# Altium footprint library EPC144.PcbLib: 12 footprints
Each footprint in its own frame and in the unit in brackets; x right, y up, seen from the top. Pads: shape width x height; smd on the part's side, far side on the other; paste and mask are expansions set on the pad; w line width, h text height; cw(c..) or ccw(c..) is an arc to the next point about the centre after c.
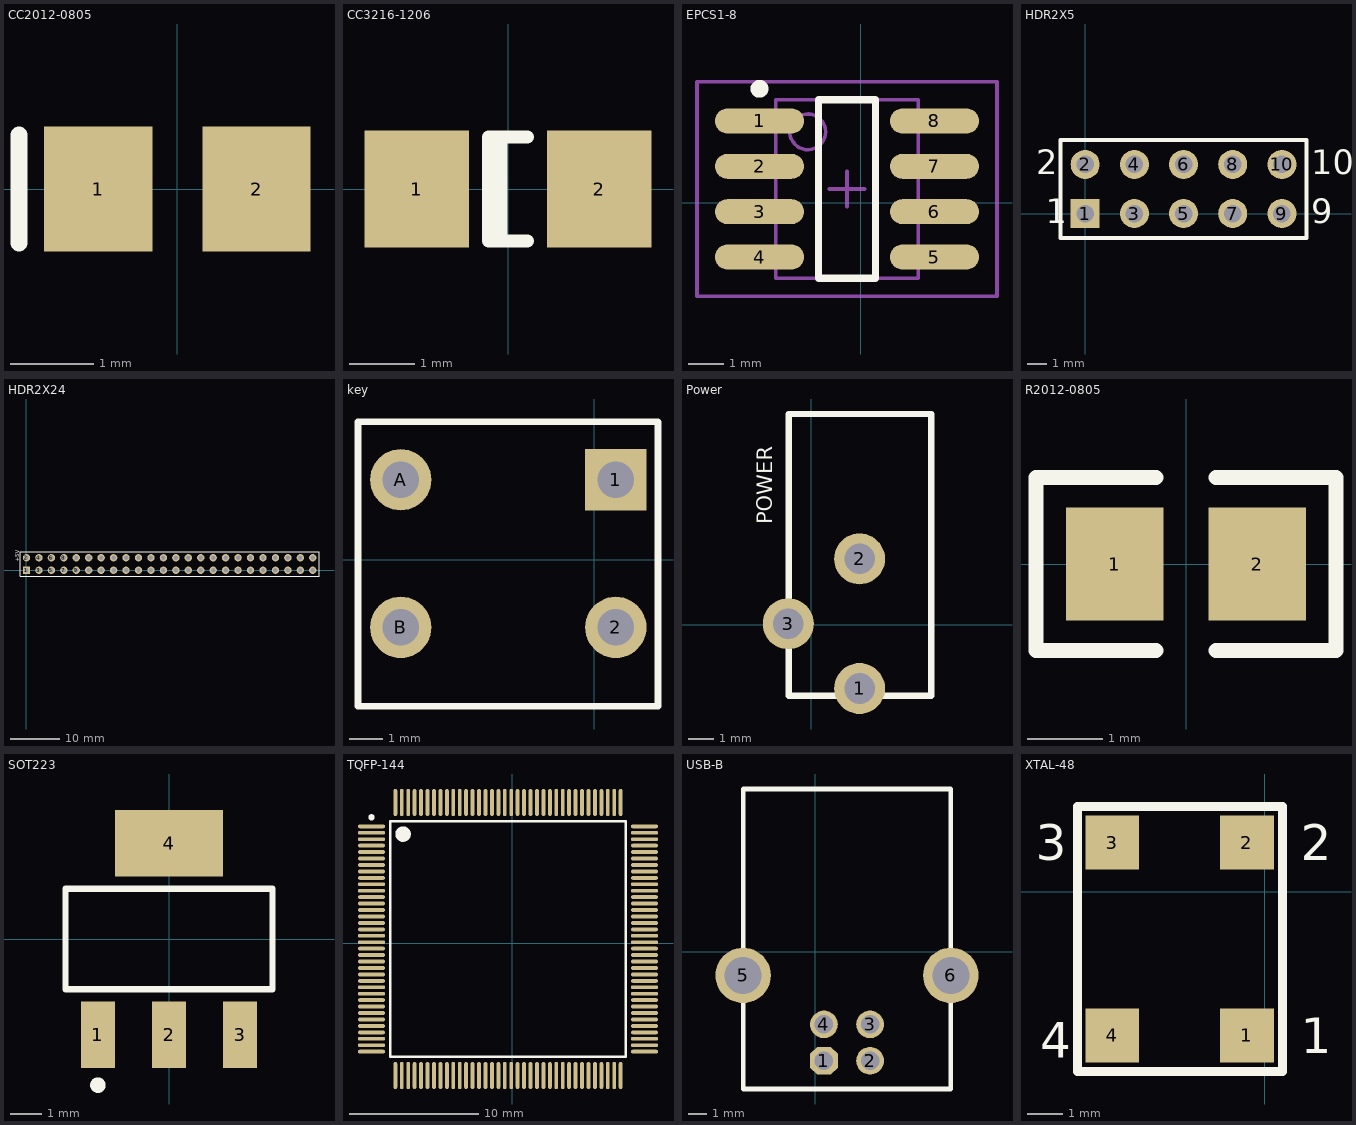
[diagram p0: the footprints below, top view; thin cyan lines are the x and y axes]

## CC2012-0805 [mm] "Chip Capacitor; Body 2.0 x 1.2 mm (LxW typ)"
height 1.1
pads (2):
  rect 1.3x1.5 smd: 1(-0.95,0) 2(0.95,0)
Top Overlay:
  lines w0.2: -1.9,-0.65 -1.9,0.65

## CC3216-1206 [mm] "Chip Capacitor; Body 3.2 x 1.6 mm (LxW typ)"
height 1.35
pads (2):
  rect 1.6x1.8 smd: 1(-1.4,0) 2(1.4,0)
Top Overlay:
  lines w0.2: -0.11,-0.8 -0.11,0.8 ; 0.3,-0.8 -0.3,-0.8 -0.3,0.8 0.3,0.8

## EPCS1-8 [mm]
height 1.73
pads (8):
  oval 2.5x0.7 smd: 1(-2.831,2.286) 2(-2.831,1.016) 3(-2.831,-0.254) 4(-2.831,-1.524) 5(2.069,-1.524) 6(2.069,-0.254) 7(2.069,1.016) 8(2.069,2.286)
Top Overlay:
  circle w0.25: c-2.831,3.186 r0.125
  lines w0.2: -1.181,-2.119 -1.181,2.881 0.419,2.881 0.419,-2.119 -1.181,-2.119
Mechanical 13:
  circle w0.1: c-1.481,1.981 r0.5
  lines w0.1: -2.381,-2.119 -2.381,2.881 1.619,2.881 1.619,-2.119 -2.381,-2.119
Mechanical 15:
  lines w0.1: -0.881,0.381 0.119,0.381 ; -0.381,-0.119 -0.381,0.881 ; -4.581,-2.619 -4.581,3.381 3.819,3.381 3.819,-2.619 -4.581,-2.619
3D body: height 1.73, standoff 0, extent -2.381,-2.119 1.619,2.881

## HDR2X5 [mm] "Connector; Header; 5x2 Position"
height 1.73
pads (10):
  rect 1.5x1.5 hole 0.9: 1(0,0)
  round 1.5 hole 0.9: 2(0,2.54) 3(2.54,0) 4(2.54,2.54) 5(5.08,0) 6(5.08,2.54) 7(7.62,0) 8(7.62,2.54) 9(10.16,0) 10(10.16,2.54)
Top Overlay:
  lines w0.2: -1.27,-1.27 11.43,-1.27 11.43,3.81 -1.27,3.81 -1.27,-1.27
  text "10" at 11.684,2.032 h1.27
  text "9" at 11.684,-0.508 h1.27
  text "1" at -2.032,-0.508 h1.27
  text "2" at -2.54,2.032 h1.27

## HDR2X24 [mm] "Connector; Header; 24x2 Position"
height 1.73
pads (48):
  rect 1.5x1.5 hole 0.9: 1(0,0)
  round 1.5 hole 0.9: 2(0,2.54) 3(2.54,0) 4(2.54,2.54) 5(5.08,0) 6(5.08,2.54) 7(7.62,0) 8(7.62,2.54) 9(10.16,0) 10(10.16,2.54) 11(12.7,0) 12(12.7,2.54) 13(15.24,0) 14(15.24,2.54) 15(17.78,0) 16(17.78,2.54) 17(20.32,0) 18(20.32,2.54) 19(22.86,0) 20(22.86,2.54) 21(25.4,0) 22(25.4,2.54) 23(27.94,0) 24(27.94,2.54) 25(30.48,0) 26(30.48,2.54) 27(33.02,0) 28(33.02,2.54) 29(35.56,0) 30(35.56,2.54) 31(38.1,0) 32(38.1,2.54) 33(40.64,0) 34(40.64,2.54) 35(43.18,0) 36(43.18,2.54) 37(45.72,0) 38(45.72,2.54) 39(48.26,0) 40(48.26,2.54) 41(50.8,0) 42(50.8,2.54) 43(53.34,0) 44(53.34,2.54) 45(55.88,0) 46(55.88,2.54) 47(58.42,0) 48(58.42,2.54)
Top Overlay:
  lines w0.2: -1.27,-1.27 -1.27,3.81 59.69,3.81 59.69,-1.27 -1.27,-1.27
  text "+5V" at -1.524,1.778 h0.8

## key [mm]
height 1.73
pads (4):
  rect 1.85x1.85 hole 1.1: 1(0.646,2.411)
  round 1.85 hole 1.1: 2(0.646,-2.034) A(-5.831,2.411) B(-5.831,-2.034)
Top Overlay:
  lines w0.2: -7.117,-4.408 -7.117,4.159 1.916,4.151 1.916,-4.409 -7.117,-4.408

## Power [mm]
height 1.73
pads (3):
  round 2 hole 1.2: 1(1.893,-2.503) 2(1.893,2.577) 3(-0.901,0.037)
Bottom Layer:
  lines w0.2: 1.67,-2.28 1.893,-2.503
Top Overlay:
  lines w0.254: -0.889,-2.794 4.699,-2.794 4.699,8.255 -0.889,8.255 -0.889,-2.794
  text "POWER" at -1.524,3.937 h0.6

## R2012-0805 [mm] "Thermistor; 2 Leads"
pads (2):
  rect 1.3x1.5 smd: 1(-0.95,0) 2(0.95,0)
Top Overlay:
  lines w0.2: -0.4,-1.15 -2,-1.15 -2,1.15 -0.4,1.15 ; 0.4,-1.15 2,-1.15 2,1.15 0.4,1.15

## SOT223 [mm] "SOT-223/SC-73; 4 Leads; Body 6.7 x 7.3 mm, inc. leads (LxW max)"
height 1.8
pads (4):
  rect 1.1x2.15 smd: 1(-2.3,-3.1) 2(0,-3.1) 3(2.3,-3.1)
  rect 3.5x2.15 smd: 4(0,3.1)
Top Overlay:
  circle w0.25: c-2.3,-4.725 r0.125
  lines w0.2: -3.35,-1.625 -3.35,1.625 3.35,1.625 3.35,-1.625 -3.35,-1.625

## TQFP-144 [mm]
pads (144):
  oval 2.1x0.3 smd: 1(-10.913,9.095) 2(-10.913,8.595) 3(-10.913,8.095) 4(-10.913,7.595) 5(-10.913,7.095) 6(-10.913,6.595) 7(-10.913,6.095) 8(-10.913,5.595) 9(-10.913,5.095) 10(-10.913,4.595) 11(-10.913,4.095) 12(-10.913,3.595) 13(-10.913,3.095) 14(-10.913,2.595) 15(-10.913,2.095) 16(-10.913,1.595) 17(-10.913,1.095) 18(-10.913,0.595) 19(-10.913,0.095) 20(-10.913,-0.405) 21(-10.913,-0.905) 22(-10.913,-1.405) 23(-10.913,-1.905) 24(-10.913,-2.405) 25(-10.913,-2.905) 26(-10.913,-3.405) 27(-10.913,-3.905) 28(-10.913,-4.405) 29(-10.913,-4.905) 30(-10.913,-5.405) 31(-10.913,-5.905) 32(-10.913,-6.405) 33(-10.913,-6.905) 34(-10.913,-7.405) 35(-10.913,-7.905) 36(-10.913,-8.405) 73(10.287,-8.405) 74(10.287,-7.905) 75(10.287,-7.405) 76(10.287,-6.905) 77(10.287,-6.405) 78(10.287,-5.905) 79(10.287,-5.405) 80(10.287,-4.905) 81(10.287,-4.405) 82(10.287,-3.905) 83(10.287,-3.405) 84(10.287,-2.905) 85(10.287,-2.405) 86(10.287,-1.905) 87(10.287,-1.405) 88(10.287,-0.905) 89(10.287,-0.405) 90(10.287,0.095) 91(10.287,0.595) 92(10.287,1.095) 93(10.287,1.595) 94(10.287,2.095) 95(10.287,2.595) 96(10.287,3.095) 97(10.287,3.595) 98(10.287,4.095) 99(10.287,4.595) 100(10.287,5.095) 101(10.287,5.595) 102(10.287,6.095) 103(10.287,6.595) 104(10.287,7.095) 105(10.287,7.595) 106(10.287,8.095) 107(10.287,8.595) 108(10.287,9.095)
  oval 0.3x2.1 smd: 37(-9.063,-10.255) 38(-8.563,-10.255) 39(-8.063,-10.255) 40(-7.563,-10.255) 41(-7.063,-10.255) 42(-6.563,-10.255) 43(-6.063,-10.255) 44(-5.563,-10.255) 45(-5.063,-10.255) 46(-4.563,-10.255) 47(-4.063,-10.255) 48(-3.563,-10.255) 49(-3.063,-10.255) 50(-2.563,-10.255) 51(-2.063,-10.255) 52(-1.563,-10.255) 53(-1.063,-10.255) 54(-0.563,-10.255) 55(-0.063,-10.255) 56(0.437,-10.255) 57(0.937,-10.255) 58(1.437,-10.255) 59(1.937,-10.255) 60(2.437,-10.255) 61(2.937,-10.255) 62(3.437,-10.255) 63(3.937,-10.255) 64(4.437,-10.255) 65(4.937,-10.255) 66(5.437,-10.255) 67(5.937,-10.255) 68(6.437,-10.255) 69(6.937,-10.255) 70(7.437,-10.255) 71(7.937,-10.255) 72(8.437,-10.255) 109(8.437,10.945) 110(7.937,10.945) 111(7.437,10.945) 112(6.937,10.945) 113(6.437,10.945) 114(5.937,10.945) 115(5.437,10.945) 116(4.937,10.945) 117(4.437,10.945) 118(3.937,10.945) 119(3.437,10.945) 120(2.937,10.945) 121(2.437,10.945) 122(1.937,10.945) 123(1.437,10.945) 124(0.937,10.945) 125(0.437,10.945) 126(-0.063,10.945) 127(-0.563,10.945) 128(-1.063,10.945) 129(-1.563,10.945) 130(-2.063,10.945) 131(-2.563,10.945) 132(-3.063,10.945) 133(-3.563,10.945) 134(-4.063,10.945) 135(-4.563,10.945) 136(-5.063,10.945) 137(-5.563,10.945) 138(-6.063,10.945) 139(-6.563,10.945) 140(-7.063,10.945) 141(-7.563,10.945) 142(-8.063,10.945) 143(-8.563,10.945) 144(-9.063,10.945)
Top Overlay:
  circle w0.6: c-8.463,8.495 r0.3
  circle w0.25: c-10.913,9.795 r0.125
  lines w0.2: -9.463,-8.805 8.837,-8.805 8.837,9.495 -9.463,9.495 -9.463,-8.805

## USB-B [mil]
height 68.11
pads (6):
  oct 60x60 hole 40: 1(18.39,-235.84)
  round 60 hole 40: 2(118.39,-235.84) 3(118.39,-157.1) 4(18.39,-157.1)
  round 120 hole 80: 5(-156.61,-50.8) 6(293.39,-50.8)
Top Overlay:
  lines w10: -156.61,-297.1 -156.61,352.9 293.39,352.9 293.39,-297.1 -156.61,-297.1

## XTAL-48 [mil]
pads (4):
  rect 60x60 smd: 1(-20,-160) 2(-20,55) 3(-170,55) 4(-170,-160)
Top Overlay:
  lines w10: -208.71,-200 -208.71,95 -5,95 20,95 20,-200 -8.1,-200 -208.71,-200
  text "1" at 40,-180 h39.37
  text "2" at 40,35 h39.37
  text "3" at -255,35 h39.37
  text "4" at -250,-185 h39.37